# Altium schematic symbol library Parts.SchLib: 4 symbols
Pins are listed as number, name and electrical type; pins without a type are passive.

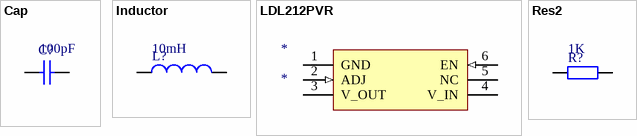
[diagram p0: symbols Cap to Res2]

## Cap
designator C?  value 100pF
Capacitor; Published: 8-Jun-2000; LatestRevisionDate: 17-Jul-2002; LatestRevisionNote: Re-released for DXP Platform.; PackageReference: RAD-0.3; Publisher: Altium Limited; PackageDescription: Radial Cap, Thru-Hole; 2 Leads; 0.3 in Pin Spacing
simulation model CAP (Capacitor)
signal-integrity model Cap
footprint CL05A105KQ5NNNC (Chip Capacitor, 2-Leads, Body 1.00x0.50mm, IPC Medium Density)
footprint CL05B104KQ5NNNC (Chip Capacitor, 2-Leads, Body 1.00x0.50mm, IPC Medium Density)
footprint CL10A225KA8NNNC (Chip Capacitor, 2-Leads, Body 1.60x0.80mm, IPC Medium Density)
footprint CL10A475KQ8NNNC (Chip Capacitor, 2-Leads, Body 1.60x0.80mm, IPC Medium Density)
footprint CL10C120JB81PNC (Chip Capacitor, 2-Leads, Body 1.60x0.80mm, IPC Medium Density)
pins: 1, 2

## Inductor
designator L?  value 10mH
Inductor; Code_IEC: 1005; Published: 8-Jun-2000; LatestRevisionDate: 29-May-2009; LatestRevisionNote: IPC-7351 Footprint Added.; PackageReference: 0402-A; Publisher: Altium Limited; PackageDescription: Chip Inductor; Code_JEITA: 0402
simulation model INDUCTOR (Inductor)
signal-integrity model Inductor
footprint 742792040 (Chip Inductor, 2-Leads, Body 2.00x1.20mm, IPC Medium Density)
pins: 1, 2

## LDL212PVR
designator *
footprint LDL212PVR
pins: 1 GND (power), 2 ADJ (in), 3 V_OUT (power), 4 V_IN (power), 5 NC, 6 EN (in)

## Res2
designator R?  value 1K
Resistor; Published: 8-Jun-2000; LatestRevisionDate: 17-Jul-2002; LatestRevisionNote: Re-released for DXP Platform.; PackageReference: AXIAL-0.4; Publisher: Altium Limited; PackageDescription: Axial Device, Thru-Hole; 2 Leads; 0.4 in Pin Spacing
simulation model RESISTOR (Resistor)
signal-integrity model Res
footprint ERJ-UP3F20R0V (Chip Resistor, 2-Leads, Body 1.60x0.85mm, IPC Medium Density)
footprint ERJ-UP3F1001V (Chip Resistor, 2-Leads, Body 1.60x0.85mm, IPC Medium Density)
footprint ERJ-UP3F1002V (Chip Resistor, 2-Leads, Body 1.60x0.85mm, IPC Medium Density)
footprint ERJ-UP3F1802V (Chip Resistor, 2-Leads, Body 1.60x0.85mm, IPC Medium Density)
footprint ERJ-UP3F3903V (Chip Resistor, 2-Leads, Body 1.60x0.85mm, IPC Medium Density)
footprint ERJ-UP3J470V (Chip Resistor, 2-Leads, Body 1.60x0.85mm, IPC Medium Density)
pins: 1, 2